# EAGLE library part MINI_MATE_SAMTEC_2X5 (library hsk_2012)
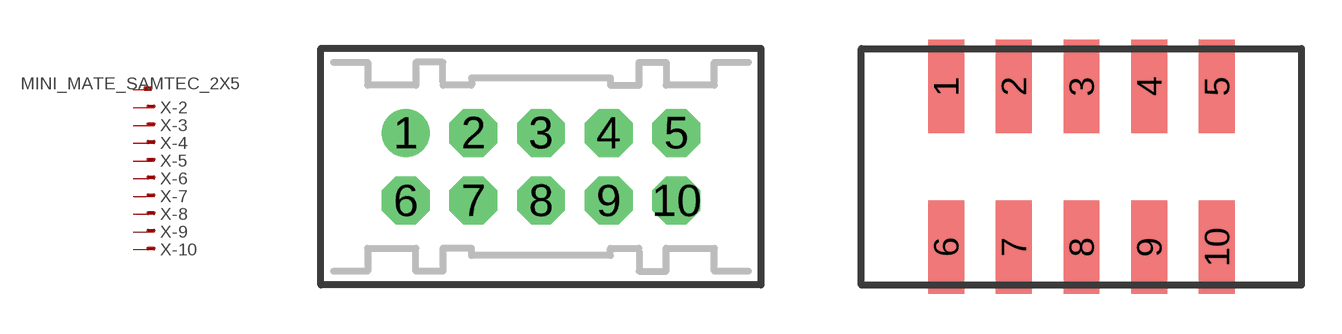
[diagram p28: symbol with the pads of MINI_MATE_SAMTEC_2X5; footprints MINI_MATE_SAMTEC_2X5, MINI_MATE_SAMTEC_2X5_SMD]

Designator prefix X; gates -2=CON -3=CON -4=CON -5=CON -6=CON -7=CON -8=CON -9=CON -10=CON A=SINGLE_PAD_MIRR

## MINI_MATE_SAMTEC_2X5_10  [MINI_MATE_SAMTEC_2X5]
1  A:1
2  -2:CON
3  -3:CON
4  -4:CON
5  -5:CON
6  -6:CON
7  -7:CON
8  -8:CON
9  -9:CON
10  -10:CON

## MINI_MATE_SAMTEC_2X5_SMD  [MINI_MATE_SAMTEC_2X5_SMD]
Pads as for MINI_MATE_SAMTEC_2X5

## MINI_MATE_SAMTEC_2X5_90  [MINI_MATE_SAMTEC_2X5_90°]
Pads as for MINI_MATE_SAMTEC_2X5

## Footprint MINI_MATE_SAMTEC_2X5 (pad centres in mm)
drill 1.016 pad 1.8: 1 -5.08,1.27
drill 1.016 pad 1.8 octagon: 2 -2.54,1.27; 3 0,1.27; 4 2.54,1.27; 5 5.08,1.27; 6 -5.08,-1.27; 7 -2.54,-1.27; 8 0,-1.27; 9 2.54,-1.27; 10 5.08,-1.27

## Footprint MINI_MATE_SAMTEC_2X5_SMD (pad centres in mm)
smd 1.35 x 3.5: 1 -5.08,3.02; 2 -2.54,3.02; 3 0,3.02; 4 2.54,3.02; 5 5.08,3.02; 6 -5.08,-3.02; 7 -2.54,-3.02; 8 0,-3.02; 9 2.54,-3.02; 10 5.08,-3.02

## Footprint MINI_MATE_SAMTEC_2X5_90° (pad centres in mm)
0.1" DOUBLE ROW TERMINAL ASSEMBLY. MANUFACTURER:SAMTEC.
drill 1.016 pad 1.524: 1 -5.08,0; 2 -2.54,0; 3 0,0; 4 2.54,0; 5 5.08,0; 6 -5.08,-2.54; 7 -2.54,-2.54; 8 0,-2.54; 9 2.54,-2.54; 10 5.08,-2.54